# Altium schematic symbol library MCP42100.SchLib: 1 symbol
Pins are listed as number, name and electrical type; pins without a type are passive.

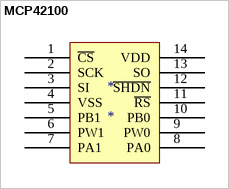
[diagram p0: symbol MCP42100]

## MCP42100
designator *
pins: 1 ~{CS}, 2 SCK, 3 SI, 4 VSS, 5 PB1, 6 PW1, 7 PA1, 8 PA0, 9 PW0, 10 PB0, 11 ~{RS}, 12 ~{SHDN}, 13 SO, 14 VDD